# EAGLE library part 1571983-5 (library Switches)
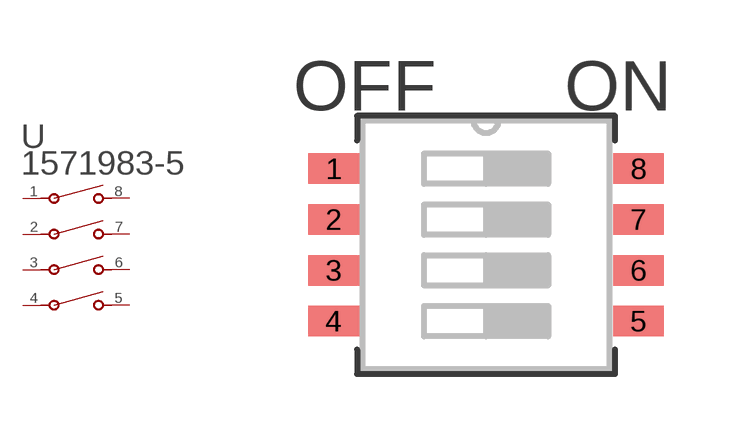
[diagram p26: symbol with the pads of SWSO8_300X100P50B; footprint SWSO8_300X100P50B]

Designator prefix U

## 1571983-5 (BUILT_BY: EMA_UL_Team; CATEGORY: DIP & SIP Switches; COPYRIGHT: Copyright (C) 2016 Accelerated Designs. All rights reserved; DESCRIPTION: GDH04STR04=DIP SWITCH; MANUFACTURER_PART_NUMBER: 1571983-5; PART_STATUS: active; SERIES: Alcoswitch DIP,Alcoswitch DIP GDH; VENDOR: TE Connectivity)  [SWSO8_300X100P50B]
1  1  pas
2  2  pas
3  3  pas
4  4  pas
5  5  pas
6  6  pas
7  7  pas
8  8  pas

## Footprint SWSO8_300X100P50B (pad centres in mm)
smd 1.27 x 0.762: 1 -3.81,1.905; 2 -3.81,0.635; 3 -3.81,-0.635; 4 -3.81,-1.905; 5 3.81,-1.905; 6 3.81,-0.635; 7 3.81,0.635; 8 3.81,1.905